# Altium footprint library D1.PcbLib: 36 footprints (part 1 of 3)
Each footprint in its own frame and in the unit in brackets; x right, y up, seen from the top. Pads: shape width x height; smd on the part's side, far side on the other; paste and mask are expansions set on the pad; w line width, h text height; cw(c..) or ccw(c..) is an arc to the next point about the centre after c.
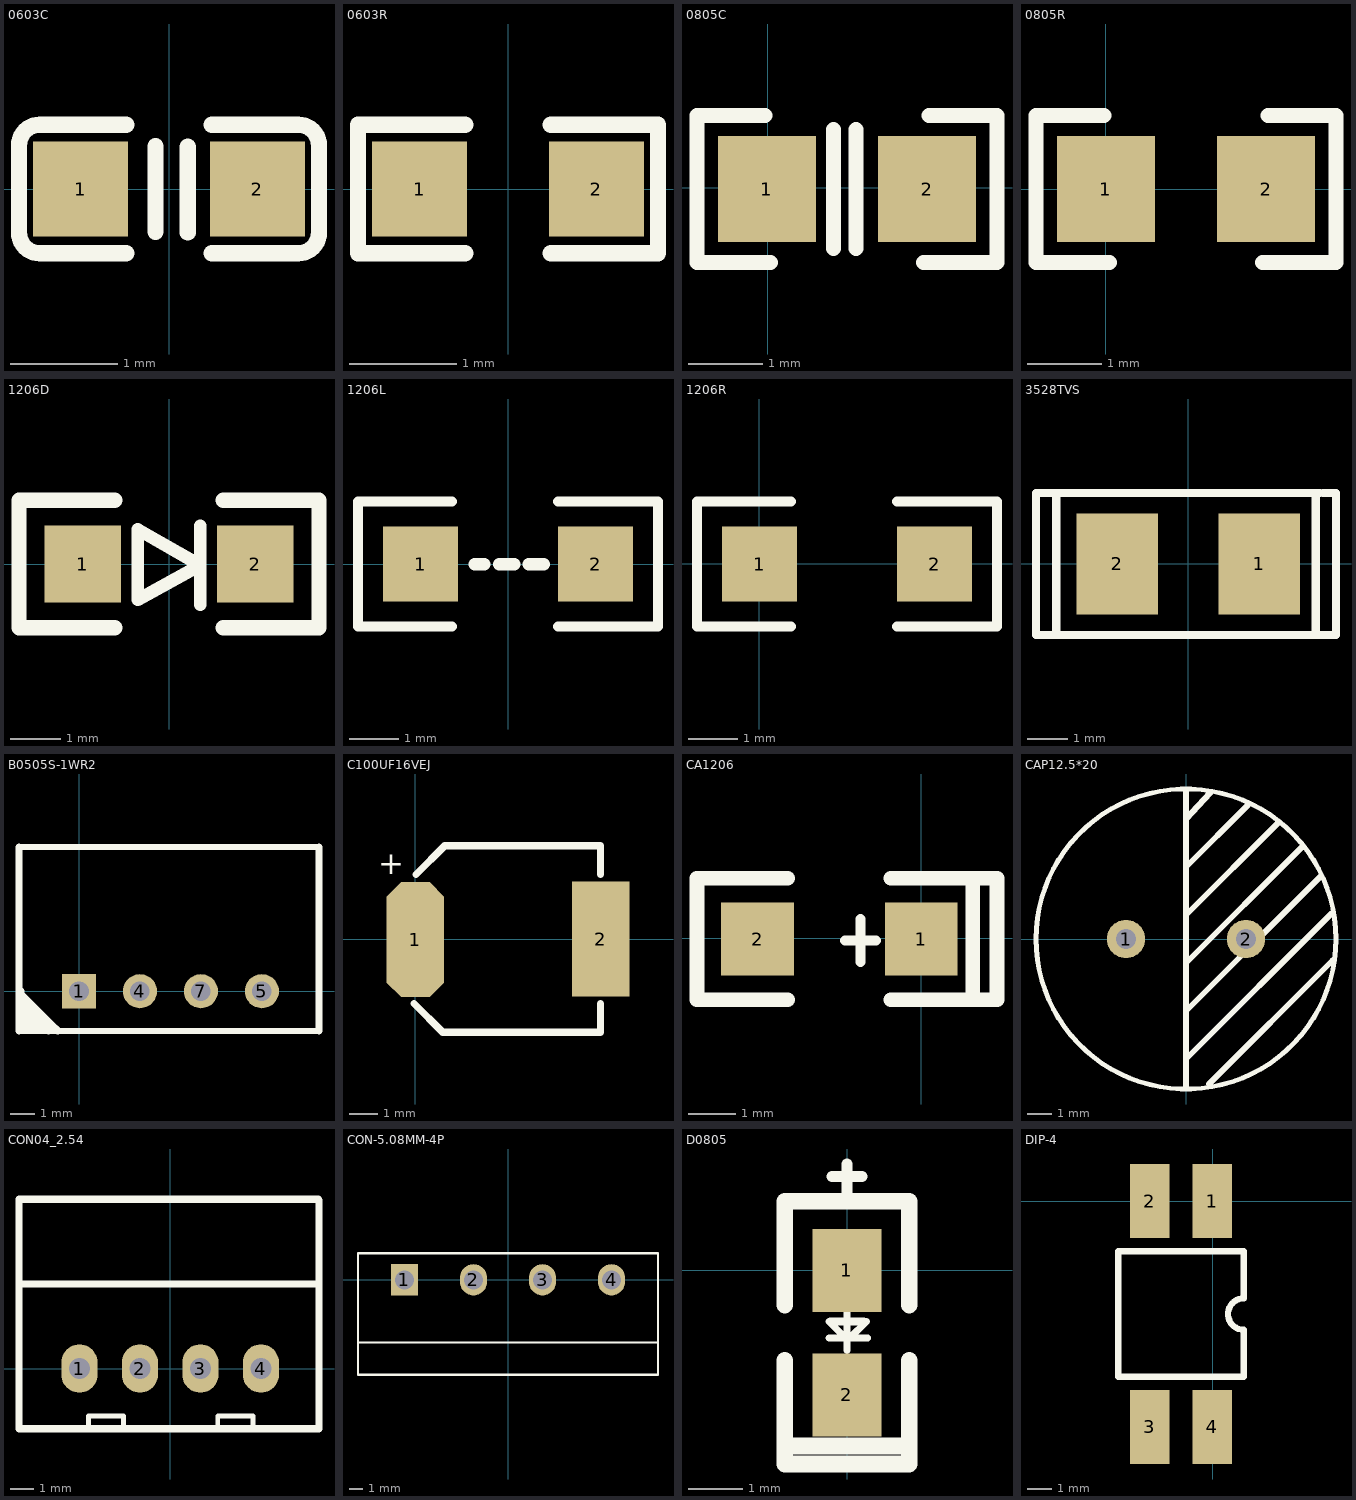
[diagram p0: the footprints below, top view; thin cyan lines are the x and y axes]

## 0603C [mil]
height 9.5
pads (2):
  rect 35x35 smd: 1(-32.5,0) 2(32.5,0)
Top Overlay:
  lines w6: -15.75,-23.62 -47.5,-23.62 cw(c-47.5,-16) -55.12,-16 -55.12,16 cw(c-47.5,16) -47.5,23.62 -15.75,23.62 ; -4.94,-15.75 -4.94,15.75 ; 6.87,-16 6.87,15.5 ; 15.75,-23.62 47.5,-23.62 ccw(c47.5,-16) 55.12,-16 55.12,16 ccw(c47.5,16) 47.5,23.62 15.75,23.62

## 0603R [mil]
height 9.5
pads (2):
  rect 35x35 smd: 1(-32.5,0) 2(32.5,0)
Top Overlay:
  lines w6: -15.75,-23.62 -55.12,-23.62 -55.12,23.62 -15.75,23.62 ; 15.74,-23.62 55.11,-23.62 55.11,23.62 15.74,23.62

## 0805C [mil]
height 9.5
pads (2):
  rect 52x56 smd: 1(-0.58,-0.68) 2(84.42,-0.68)
Top Overlay:
  lines w7.87: -1.58,38.32 -37.58,38.32 -37.58,-39.68 1.42,-39.68 ; 34.86,-32.17 34.86,30.82 ; 46.67,-32.17 46.67,30.82 ; 82.42,-39.68 121.42,-39.68 121.42,38.32 85.42,38.32

## 0805R [mil]
height 9.5
pads (2):
  rect 52x56 smd: 1(0,0) 2(85,0)
Top Overlay:
  lines w8: -1,39 -37,39 -37,-39 2,-39 ; 83,-39 122,-39 122,39 86,39

## 1206D [mil]
height 9.5
pads (2):
  rect 60x60 smd: 1(-67.5,0) 2(67.5,0)
Top Overlay:
  lines w10: 24.5,-32 24.5,30 ; -24.5,-28 24.5,-1 -24.5,27 -24.5,-28
  lines w12: -42.5,-50 -117.5,-50 -117.5,50 -42.5,50 ; 42.5,-50 117.5,-50 117.5,50 42.5,50

## 1206L [mil]
pads (2):
  rect 60x60 smd: 1(-70,0) 2(70,0)
Top Overlay:
  lines w8: -45,-50 -120,-50 -120,50 -45,50 ; 40,-50 120,-50 120,50 40,50
  lines w10: -26.69,0 -18.82,0 ; -7.01,0 4.8,0 ; 16.61,0 28.43,0

## 1206R [mil]
height 9.5
pads (2):
  rect 60x60 smd: 1(0.33,-0.04) 2(140.33,-0.04)
Top Overlay:
  lines w8: 25.33,-50.04 -49.67,-50.04 -49.67,49.96 25.33,49.96 ; 110.33,-50.04 190.33,-50.04 190.33,49.96 110.33,49.96

## 3528TVS [mil]
height 9.5
pads (2):
  rect 80x100 smd: 1(70,0) 2(-70,0)
Top Overlay:
  lines w8: -130,-70 -130,70 ; 125.59,-70 125.59,70 ; 130,-70 -150,-70 -150,70 130,70 ; 132.53,-70 145.59,-70 145.59,70 133,70

## B0505S-1WR2 [mil]
pads (4):
  rect 56x56 hole 32: 1(0,0)
  round 56 hole 32: 4(100,0) 5(300,0) 7(200,0)
Top Overlay:
  lines w10: -98.43,-65 393.7,-65 ; -98.43,236.22 393.7,236.22
  lines w11.81: -98.43,-65 -98.43,236.22 ; -95,0 -95,-5 -45,-55 ; -90,-60 -90,-40 ; -90,-15 -90,-25 ; -85,-55 -45,-55 ; -85,-40 -90,-40 ; -82.5,-47.5 -67.5,-47.5 -50,-65 ; -75,-35 -75,-55 -90,-40 ; -55,-55 -85,-25 -90,-25 ; -35,-65 -45,-55 ; 393.7,-65 393.7,236.22 ; -90,-40 -90,-25

## C100UF16VEJ [mil]
height 9.5
pads (2):
  oct 80x160 smd: 1(-0.01,-0.43)
  rect 80x160 smd: 2(257.94,0.35)
Top Overlay:
  lines w10: -2,-89.65 38,-129.65 257.94,-129.65 257.94,-89.65 ; 0.77,90.35 40.77,130.35 257.94,130.35 257.94,90.35
  text "+" at -52.06,90.35 h31.5

## CA1206 [mil]
height 9.5
pads (2):
  rect 60x60 smd: 1(-0.08,-0.48) 2(-135.08,-0.48)
Top Overlay:
  lines w8: -63.03,-1.66 -37.44,-1.66 ; -50.24,-19.38 -50.24,16.05
  lines w12: -110.08,-50.48 -185.08,-50.48 -185.08,49.52 -110.08,49.52 ; -25.08,-50.48 42.42,-50.48 ; -25.08,49.52 42.42,49.52 ; 42.42,-50.48 42.42,49.52 ; 42.42,-50.48 62.42,-50.48 62.42,49.52 42.42,49.52

## CAP12.5*20 [mm]
pads (2):
  round 1.6 hole 0.85: 1(-2.5,0) 2(2.5,0)
Top Overlay:
  circle w0.2: c0,0 r6.25
  lines w0.254: 0,-6.223 0,6.223 ; 0,-5 6.056,1.056 ; 0,-1 4.818,3.818 ; 0,1 3.882,4.882 ; 0,5 1.016,6.096 ; 2.564,5.564 0,3 ; 5.627,2.627 0,-3 ; 6.104,-0.896 0.96,-6.04 ; 0,-3 0,-3 ; 0,3 0,3 ; 0.96,-6.04 0.96,-6.04

## CON04_2.54 [mil]
height 9.5
pads (4):
  oval 60x80 hole 35: 1(-150,0) 2(-50,0) 3(50,0) 4(150,0)
Top Overlay:
  lines w7.87: -77,-97.43 -76,-98.43 78.74,-98.43
  lines w8: -250,130.31 -250,-99.69 246.06,-99.69 246.06,130.31 ; -135,-97.43 -135,-78.74 -77,-78.74 -77,-97.43 ; 78.74,-98.43 78.74,-78.74 136.74,-78.74 136.74,-98.43
  lines w11.81: -250,130.31 -250,250 -250,280 245,280 246.06,278.94 246.06,-99.69 -250,-99.69 -250,140 241.06,140

## CON-5.08MM-4P [mm] "CON-5.08MM-4P"
pads (4):
  rect 2x2.3 hole 1.4: 1(-7.62,0)
  oval 2x2.3 hole 1.4: 2(-2.54,0) 3(2.54,0) 4(7.62,0)
Top Overlay:
  lines w0.15: -11.015,-4.597 11.04,-4.597 ; -11.04,-6.985 -11.04,-3.81 -11.04,1.956 -10.185,1.956 11.04,1.956 11.04,-6.985 -11.04,-6.985

## D0805 [mil]
height 9.5
pads (2):
  rect 50x60 smd: 1(-0.34,-0.09) 2(-0.34,-90.09)
Top Overlay:
  lines w5: -13.34,-49.09 14.66,-49.09 ; -13.34,-37.09 -1.34,-49.09 ; -0.34,-58.09 -0.34,-30.09 ; 1.66,-49.09 13.66,-37.09
  lines w6: -12.34,-37.09 11.66,-37.09
  lines w8: -11.34,67.91 10.66,67.91 ; -0.34,55.91 -0.34,76.91
  lines w12: -45.34,-127.09 44.66,-127.09 ; -45.34,-65.09 -45.34,-140.09 44.66,-140.09 44.66,-65.09 ; -45.34,-25.09 -45.34,49.91 44.66,49.91 44.66,-25.09

## DIP-4 [mm]
height 0.241
pads (4):
  rect 1.6x3 smd: 1(-0.008,0.015) 2(-2.548,0.015) 3(-2.548,-9.129) 4(-0.008,-9.129)
Top Overlay:
  lines w0.254: -3.823,-7.1 1.257,-7.1 1.257,-5.195 cw(c1.257,-4.56) 1.257,-3.925 1.257,-2.02 -3.823,-2.02 -3.823,-7.1